# Altium footprint library doan2.PcbLib: 29 footprints (part 2 of 2)
Each footprint in its own frame and in the unit in brackets; x right, y up, seen from the top. Pads: shape width x height; smd on the part's side, far side on the other; paste and mask are expansions set on the pad; w line width, h text height; cw(c..) or ccw(c..) is an arc to the next point about the centre after c.
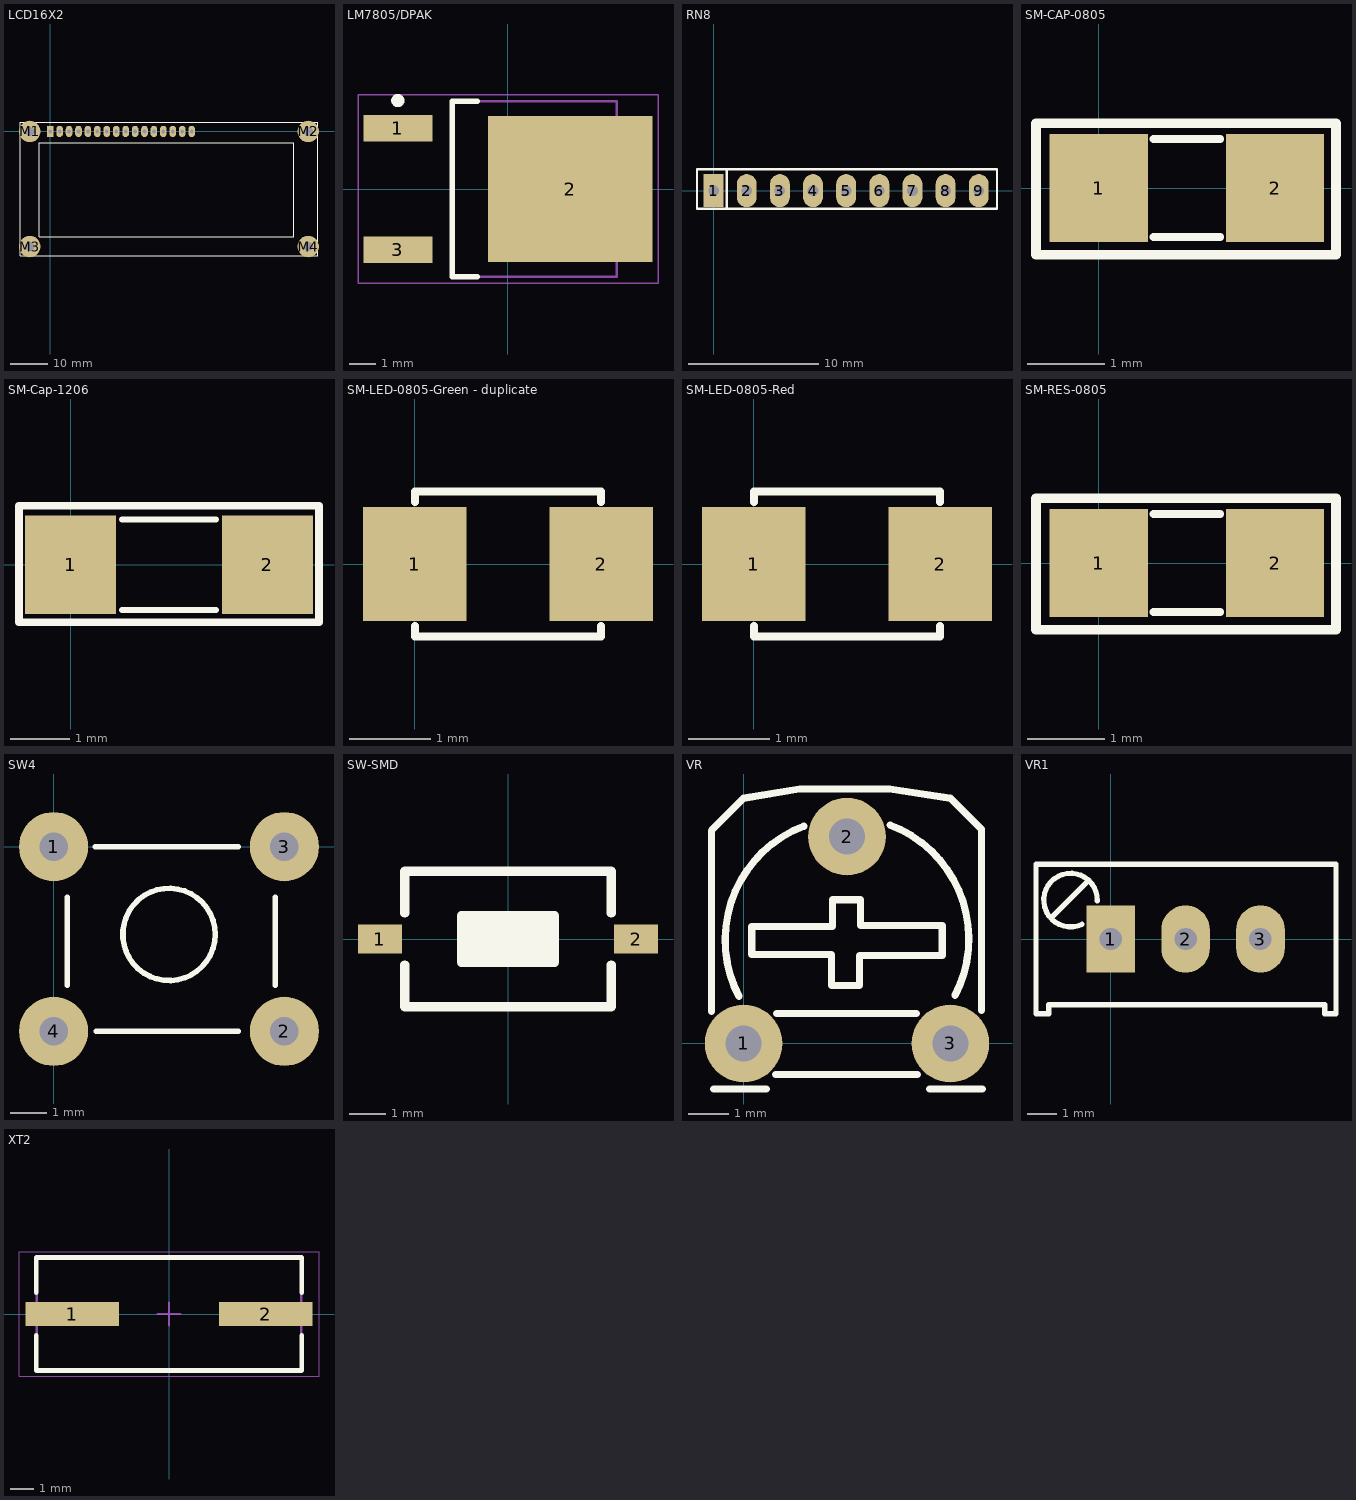
[diagram p1: the footprints below, top view; thin cyan lines are the x and y axes]

## LCD16X2 [mm] "LCD dipslay 16x2, 16 pin"
height 10.16
pads (20):
  rect 1.778x3.048 hole 1: 1(0,0)
  oval 1.778x3.048 hole 1: 2(2.54,0) 3(5.08,0) 4(7.62,0) 5(10.16,0) 6(12.7,0) 7(15.24,0) 8(17.78,0) 9(20.32,0) 10(22.86,0) 11(25.4,0) 12(27.94,0) 13(30.48,0) 14(33.02,0) 15(35.56,0) 16(38.1,0)
  round 5.8 / inner round 0 / far side round 0 hole 2.5 unplated: M1(-5.5,0) M2(69.5,0) M3(-5.5,-31) M4(69.5,-31)
Top Overlay:
  lines w0.2: -8,-33.5 -8,2.5 72,2.5 72,-33.5 -8,-33.5 ; -2.921,-28.423 -2.921,-3.023 65.659,-3.023 65.659,-28.423 -2.921,-28.423
3D body "socket16.stp": height 7.02, standoff -2.98, extent -1.207,-1.333 39.433,1.207
3D body "jp16.stp": height 11.89, standoff -0.51, extent -1.219,-1.321 39.321,1.179
3D body "LCD module 16 X 2 backlight.STEP": height 18.14, standoff 4.93, extent -8.128,-34.468 72.372,2.032

## LM7805/DPAK [mm] "D-PAK, 3-Pads, Body 6.20x6.66mm (max), IPC Medium Density"
height 2.4
pads (3):
  rect 2.6x1 smd: 1(-4.15,2.28) 3(-4.15,-2.28)
  rect 6.2x5.5 smd: 2(2.35,0)
Top Overlay:
  circle w0.25: c-4.15,3.33 r0.125
  lines w0.2: -1.15,-3.3 -2.1,-3.3 -2.1,3.3 -1.15,3.3
Mechanical 13:
  lines w0.1: -2.1,-3.3 -2.1,3.3 4.1,3.3 4.1,-3.3 -2.1,-3.3
Mechanical 15:
  lines w0.05: -5.65,-3.55 -5.65,3.55 5.65,3.55 5.65,-3.55 -5.65,-3.55
  lines w0.1: -0.5,0 0.5,0 ; 0,-0.5 0,0.5
3D body "DPAK228P972X240-3N.step": height 3.3, standoff 0, extent -4.955,-3.3 4.77,3.3

## RN8 [mil] "R SIP8, 9 Pin"
height 200
pads (9):
  rect 60x100 hole 32: 1(0,0)
  oval 60x100 hole 32: 2(100,0) 3(200,0) 4(300,0) 5(400,0) 6(500,0) 7(600,0) 8(700,0) 9(800,0)
Top Overlay:
  lines w7: 40,-55 40,65 ; -50,-55 855,-55 855,65 -50,65 -50,-55
3D body "SW3dPS-Resistor Networks-1.STEP": height 219.29, standoff -115.35, extent -42.91,-20 842.92,29.21

## SM-CAP-0805 [mil]
pads (2):
  rect 50x55 smd: 1(0,0) 2(90,0)
Top Overlay:
  lines w4: 28,-25 62,-25 ; 28,25 62,25
  lines w5: -32,-34 -32,33 121,33 121,-34 -32,-34
3D body "0805 SMD Capacitor.step": height 31.39, standoff 0.6, extent 5.64,-24.6 84.37,24.61

## SM-Cap-1206 [mil]
pads (2):
  rect 60x65 smd: 1(0,0) 2(130,0)
Top Overlay:
  lines w4: 34,-30 96,-30 ; 34,30 96,30
  lines w5: -34,-38 -34,39 164,39 164,-38 -34,-38
3D body "1206 SMD Capacitor.step": height 40.05, standoff 0.6, extent 1.01,-31.49 127,31.51

## SM-LED-0805-Green - duplicate [mil]
pads (2):
  rect 50x55 smd: 1(0,0) 2(90,0)
Top Overlay:
  lines w4: 0,-30 0,-35 90,-35 90,-30 ; 0,30 0,35 90,35 90,30
3D body "User Library-led_0805-Green.step": height 43.31, standoff 0, extent 5.24,-24.6 84.77,24.61

## SM-LED-0805-Red [mil]
pads (2):
  rect 50x55 smd: 1(0,0) 2(90,0)
Top Overlay:
  lines w4: 0,-30 0,-35 90,-35 90,-30 ; 0,30 0,35 90,35 90,30
3D body "User Library-led_0805-red.step": height 43.31, standoff 0, extent 5.25,-24.6 84.77,24.62

## SM-RES-0805 [mil]
pads (2):
  rect 50x55 smd: 1(0,0) 2(90,0)
Top Overlay:
  lines w4: 28,-25 62,-25 ; 28,25 62,25
  lines w5: -32,-34 -32,33 121,33 121,-34 -32,-34
3D body "SW3dPS-0805 SMD Resistor.STEP": height 31.39, standoff 0.6, extent 5.64,-24.6 84.38,24.61

## SW4 [mil] "SW button 4pin, 250 x250 mil"
height 100
pads (4):
  round 75 hole 31: 1(0,0) 2(250,-200) 3(250,0) 4(0,-200)
Top Overlay:
  circle w6: c125,-95 r50
  lines w6: 15,-150 15,-55 ; 45,0 200,0 ; 46,-200 200,-200 ; 240,-150 240,-55
  lines w7: 239,-215 240,-214
3D body "SW3dPS-.STEP": height 275.59, standoff -137.8, extent -35.51,-220 275.51,24.09

## SW-SMD [mm] "Switch SMD type"
pads (2):
  rect 1.2x0.8 smd: 1(-3.5,0) 2(3.5,0)
Top Overlay:
  rectangle: -1.27,-0.635 1.27,0.635
  lines w0.254: -2.819,-0.711 -2.819,-1.854 2.819,-1.854 2.819,-0.711 ; -2.819,0.711 -2.819,1.854 2.819,1.854 2.819,0.711 ; -1.27,-0.635 1.27,-0.635 1.27,0.635 -1.27,0.635 -1.27,-0.635
3D body "User Library-Button-SMD.step": height 2.5, standoff 0, extent -3.05,-1.85 3.05,1.85

## VR [mil] "Resistor Variable"
height 200
pads (3):
  round 75 hole 35: 1(0,0) 2(100,200) 3(200,0)
Top Overlay:
  lines w7: -31,31 -31,206 0,237 54,246 141.5,246 200,237 230,207 230,32 ; -29,-44 22,-44 ; -4.35,45.34 cw(c100,100) 58.1,210.1 ; 8,113 8,86 85,86 85,56 112,56 112,85 192,85 192,114 113,114 113,139 86,139 86,113 9,113 ; 31,-30 168,-30 ; 32,29 167,29 ; 141.9,211.1 cw(c100,101) 204.35,46.34 ; 180,-44 231,-44
3D body "SW3dPS-Trimpot Horizontal.STEP": height 165.35, standoff -220.47, extent -86.85,-30 306.85,371.57

## VR1 [mil] "Variable Resistor"
height 400
pads (3):
  rect 65x90 hole 30: 1(0,0)
  oval 65x90 hole 30: 2(100,0) 3(200,0)
Top Overlay:
  lines w7: -80,28 -30,78 ; -38.6,19.63 cw(c-53.79,52.05) -18.01,50.77 ; -100,-100 -83,-100 -83,-88 286,-88 286,-100 301,-100 301,100 -100,100 -100,-100
3D body "SW3dPS-Bourns_3299W.STEP": height 455, standoff -45, extent -87.5,-130 287.5,110

## XT2 [mm] "Molded Capacitor, 2-Leads, Body 11.40x4.43mm, IPC Medium Density"
height 3.3
pads (2):
  rect 4.05x1.05 smd: 1(-4.2,0) 2(4.2,0)
Top Overlay:
  lines w0.2: -5.75,-0.925 -5.75,-2.45 5.75,-2.45 5.75,-0.925 ; -5.75,0.925 -5.75,2.45 5.75,2.45 5.75,0.925
Mechanical 13:
  lines w0.1: -5.725,-2.425 5.725,-2.425 5.725,2.425 -5.725,2.425 -5.725,-2.425
Mechanical 15:
  lines w0.05: -6.5,-2.7 6.5,-2.7 6.5,2.7 -6.5,2.7 -6.5,-2.7
  lines w0.1: -0.5,0 0.5,0 ; 0,-0.5 0,0.5
3D body "User Library-SMU4.STEP": height 4.01, standoff 0.01, extent -6.054,-2.379 6.446,2.421